# EAGLE library part 3X6_SERVO (library pimoroni-headers)
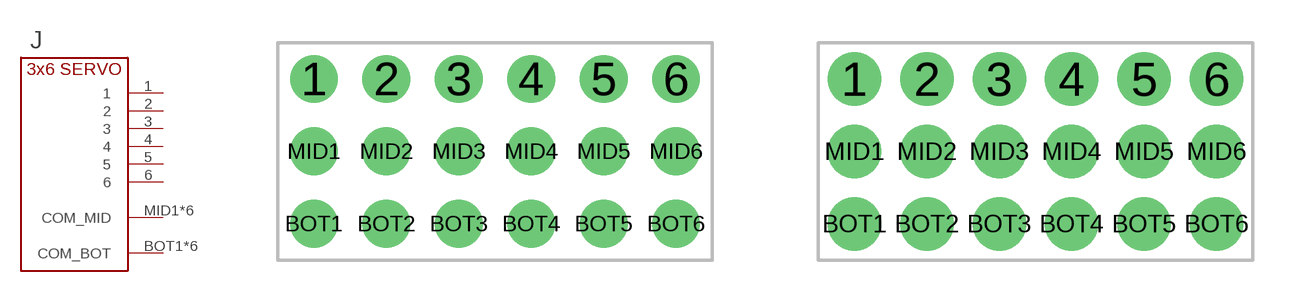
[diagram p18: symbol with the pads of 3X6; footprints 3X6, 3X6_NO_CREAM]

Designator prefix J

## 3X6_SERVO  [3X6]
1  1
2  2
3  3
4  4
5  5
6  6
BOT1  COM_BOT
BOT2  COM_BOT
BOT3  COM_BOT
BOT4  COM_BOT
BOT5  COM_BOT
BOT6  COM_BOT
MID1  COM_MID
MID2  COM_MID
MID3  COM_MID
MID4  COM_MID
MID5  COM_MID
MID6  COM_MID

## 3X6_SERVO3X6_NO_CREAM  [3X6_NO_CREAM]
Pads as for 3X6

## 3X6_SERVO3X6_NO_CREAM_SMALL  [3X6_NO_CREAM_SMALL]
Pads as for 3X6

## Footprint 3X6 (pad centres in mm)
drill 1.016 pad 1.676: 1 -6.35,2.54; 2 -3.81,2.54; 3 -1.27,2.54; 4 1.27,2.54; 5 3.81,2.54; 6 6.35,2.54; BOT1 -6.35,-2.54; BOT2 -3.81,-2.54; BOT3 -1.27,-2.54; BOT4 1.27,-2.54; BOT5 3.81,-2.54; BOT6 6.35,-2.54; MID1 -6.35,0; MID2 -3.81,0; MID3 -1.27,0; MID4 1.27,0; MID5 3.81,0; MID6 6.35,0

## Footprint 3X6_NO_CREAM (pad centres in mm)
drill 1.016 pad 1.88: 1 -6.35,2.54; 2 -3.81,2.54; 3 -1.27,2.54; 4 1.27,2.54; 5 3.81,2.54; 6 6.35,2.54; BOT1 -6.35,-2.54; BOT2 -3.81,-2.54; BOT3 -1.27,-2.54; BOT4 1.27,-2.54; BOT5 3.81,-2.54; BOT6 6.35,-2.54; MID1 -6.35,0; MID2 -3.81,0; MID3 -1.27,0; MID4 1.27,0; MID5 3.81,0; MID6 6.35,0

## Footprint 3X6_NO_CREAM_SMALL (pad centres in mm)
drill 1.016 pad 1.676: 1 -6.35,2.54; 2 -3.81,2.54; 3 -1.27,2.54; 4 1.27,2.54; 5 3.81,2.54; 6 6.35,2.54; BOT1 -6.35,-2.54; BOT2 -3.81,-2.54; BOT3 -1.27,-2.54; BOT4 1.27,-2.54; BOT5 3.81,-2.54; BOT6 6.35,-2.54; MID1 -6.35,0; MID2 -3.81,0; MID3 -1.27,0; MID4 1.27,0; MID5 3.81,0; MID6 6.35,0